# EAGLE library part W9021X (library winbond-w9021x)
W90210 Winbond W90210/W90215 HP PA-RISC embedded controller
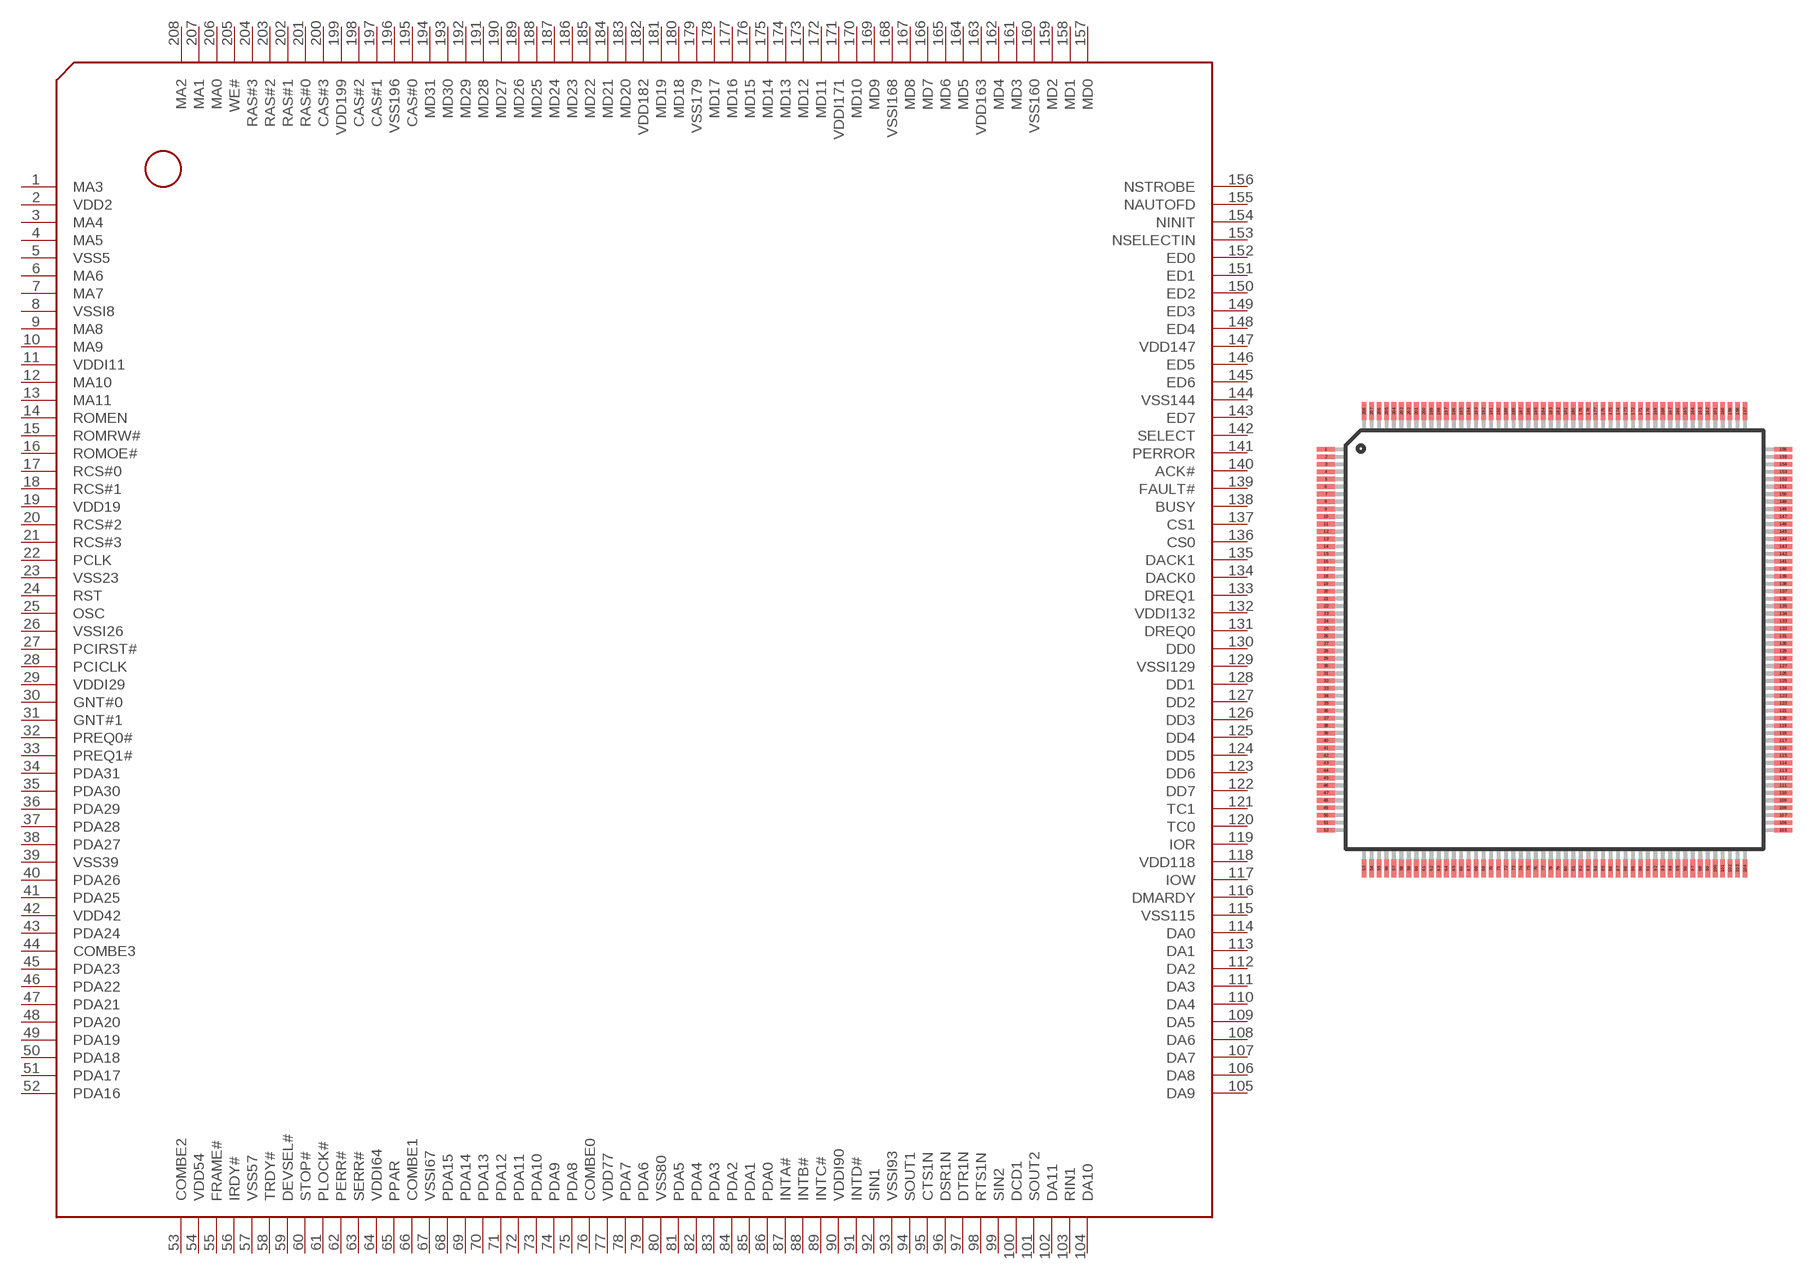
[diagram p0: symbol with the pads of PQFP208; footprint PQFP208]

Designator prefix IC

## W9021X  [PQFP208]
1  MA3  out
2  VDD2  pwr
3  MA4  out
4  MA5
5  VSS5  pwr
6  MA6  out
7  MA7  out
8  VSSI8  pwr
9  MA8  out
10  MA9  out
11  VDDI11  pwr
12  MA10  out
13  MA11  out
14  ROMEN  out
15  ROMRW#  out
16  ROMOE#  out
17  RCS#0  out
18  RCS#1  out
19  VDD19  pwr
20  RCS#2  out
21  RCS#3  out
22  PCLK  in
23  VSS23  pwr
24  RST  in
25  OSC  in
26  VSSI26  pwr
27  PCIRST#  out
28  PCICLK  out
29  VDDI29  pwr
30  GNT#0  out
31  GNT#1  out
32  PREQ0#  in
33  PREQ1#  in
34  PDA31
35  PDA30
36  PDA29
37  PDA28
38  PDA27
39  VSS39  pwr
40  PDA26
41  PDA25
42  VDD42  pwr
43  PDA24
44  COMBE3
45  PDA23
46  PDA22
47  PDA21
48  PDA20
49  PDA19
50  PDA18
51  PDA17
52  PDA16
53  COMBE2
54  VDD54  pwr
55  FRAME#
56  IRDY#
57  VSS57  pwr
58  TRDY#
59  DEVSEL#
60  STOP#
61  PLOCK#  in
62  PERR#
63  SERR#  in
64  VDDI64  pwr
65  PPAR  in
66  COMBE1
67  VSSI67  pwr
68  PDA15
69  PDA14
70  PDA13
71  PDA12
72  PDA11
73  PDA10
74  PDA9
75  PDA8
76  COMBE0
77  VDD77  pwr
78  PDA7
79  PDA6
80  VSS80  pwr
81  PDA5
82  PDA4
83  PDA3
84  PDA2
85  PDA1
86  PDA0
87  INTA#  in
88  INTB#  in
89  INTC#  in
90  VDDI90  pwr
91  INTD#  in
92  SIN1  in
93  VSSI93  pwr
94  SOUT1  out
95  CTS1N  in
96  DSR1N  out
97  DTR1N  in
98  RTS1N  out
99  SIN2  in
100  DCD1  in
101  SOUT2  out
102  DA11  out
103  RIN1  out
104  DA10  out
105  DA9  out
106  DA8  out
107  DA7  out
108  DA6  out
109  DA5  out
110  DA4  out
111  DA3  out
112  DA2  out
113  DA1  out
114  DA0  out
115  VSS115  pwr
116  DMARDY  in
117  IOW  out
118  VDD118  pwr
119  IOR  out
120  TC0  out
121  TC1  out
122  DD7
123  DD6
124  DD5
125  DD4
126  DD3
127  DD2
128  DD1
129  VSSI129  pwr
130  DD0
131  DREQ0  in
132  VDDI132  pwr
133  DREQ1  in
134  DACK0  out
135  DACK1  out
136  CS0  out
137  CS1  out
138  BUSY  in
139  FAULT#  in
140  ACK#  in
141  PERROR  in
142  SELECT  in
143  ED7
144  VSS144  pwr
145  ED6
146  ED5
147  VDD147  pwr
148  ED4
149  ED3
150  ED2
151  ED1
152  ED0
153  NSELECTIN  out
154  NINIT  out
155  NAUTOFD  out
156  NSTROBE  out
157  MD0
158  MD1
159  MD2
160  VSS160  pwr
161  MD3
162  MD4
163  VDD163  pwr
164  MD5
165  MD6
166  MD7
167  MD8
168  VSSI168  pwr
169  MD9
170  MD10
171  VDDI171  pwr
172  MD11
173  MD12
174  MD13
175  MD14
176  MD15
177  MD16
178  MD17
179  VSS179  pwr
180  MD18
181  MD19
182  VDD182  pwr
183  MD20
184  MD21
185  MD22
186  MD23
187  MD24
188  MD25
189  MD26
190  MD27
191  MD28
192  MD29
193  MD30
194  MD31
195  CAS#0  out
196  VSS196  pwr
197  CAS#1  out
198  CAS#2  out
199  VDD199  pwr
200  CAS#3  out
201  RAS#0  out
202  RAS#1  out
203  RAS#2  out
204  RAS#3  out
205  WE#  out
206  MA0  out
207  MA1  out
208  MA2  out

## Footprint PQFP208 (pad centres in mm)
PQFP208 208-Pin Plastic Quad Flat Pack
smd 1.2 x 0.32: 1 -15.3,12.75; 2 -15.3,12.25; 3 -15.3,11.75; 4 -15.3,11.25; 5 -15.3,10.75; 6 -15.3,10.25; 7 -15.3,9.75; 8 -15.3,9.25; 9 -15.3,8.75; 10 -15.3,8.25; 11 -15.3,7.75; 12 -15.3,7.25; 13 -15.3,6.75; 14 -15.3,6.25; 15 -15.3,5.75; 16 -15.3,5.25; 17 -15.3,4.75; 18 -15.3,4.25; 19 -15.3,3.75; 20 -15.3,3.25; 21 -15.3,2.75; 22 -15.3,2.25; 23 -15.3,1.75; 24 -15.3,1.25; 25 -15.3,0.75; 26 -15.3,0.25; 27 -15.3,-0.25; 28 -15.3,-0.75; 29 -15.3,-1.25; 30 -15.3,-1.75; 31 -15.3,-2.25; 32 -15.3,-2.75; 33 -15.3,-3.25; 34 -15.3,-3.75; 35 -15.3,-4.25; 36 -15.3,-4.75; 37 -15.3,-5.25; 38 -15.3,-5.75; 39 -15.3,-6.25; 40 -15.3,-6.75; 41 -15.3,-7.25; 42 -15.3,-7.75; 43 -15.3,-8.25; 44 -15.3,-8.75; 45 -15.3,-9.25; 46 -15.3,-9.75; 47 -15.3,-10.25; 48 -15.3,-10.75; 49 -15.3,-11.25; 50 -15.3,-11.75; 51 -15.3,-12.25; 52 -15.3,-12.75; 105 15.3,-12.75; 106 15.3,-12.25; 107 15.3,-11.75; 108 15.3,-11.25; 109 15.3,-10.75; 110 15.3,-10.25; 111 15.3,-9.75; 112 15.3,-9.25; 113 15.3,-8.75; 114 15.3,-8.25; 115 15.3,-7.75; 116 15.3,-7.25; 117 15.3,-6.75; 118 15.3,-6.25; 119 15.3,-5.75; 120 15.3,-5.25; 121 15.3,-4.75; 122 15.3,-4.25; 123 15.3,-3.75; 124 15.3,-3.25; 125 15.3,-2.75; 126 15.3,-2.25; 127 15.3,-1.75; 128 15.3,-1.25; 129 15.3,-0.75; 130 15.3,-0.25; 131 15.3,0.25; 132 15.3,0.75; 133 15.3,1.25; 134 15.3,1.75; 135 15.3,2.25; 136 15.3,2.75; 137 15.3,3.25; 138 15.3,3.75; 139 15.3,4.25; 140 15.3,4.75; 141 15.3,5.25; 142 15.3,5.75; 143 15.3,6.25; 144 15.3,6.75; 145 15.3,7.25; 146 15.3,7.75; 147 15.3,8.25; 148 15.3,8.75; 149 15.3,9.25; 150 15.3,9.75; 151 15.3,10.25; 152 15.3,10.75; 153 15.3,11.25; 154 15.3,11.75; 155 15.3,12.25; 156 15.3,12.75
smd 0.32 x 1.2: 53 -12.75,-15.3; 54 -12.25,-15.3; 55 -11.75,-15.3; 56 -11.25,-15.3; 57 -10.75,-15.3; 58 -10.25,-15.3; 59 -9.75,-15.3; 60 -9.25,-15.3; 61 -8.75,-15.3; 62 -8.25,-15.3; 63 -7.75,-15.3; 64 -7.25,-15.3; 65 -6.75,-15.3; 66 -6.25,-15.3; 67 -5.75,-15.3; 68 -5.25,-15.3; 69 -4.75,-15.3; 70 -4.25,-15.3; 71 -3.75,-15.3; 72 -3.25,-15.3; 73 -2.75,-15.3; 74 -2.25,-15.3; 75 -1.75,-15.3; 76 -1.25,-15.3; 77 -0.75,-15.3; 78 -0.25,-15.3; 79 0.25,-15.3; 80 0.75,-15.3; 81 1.25,-15.3; 82 1.75,-15.3; 83 2.25,-15.3; 84 2.75,-15.3; 85 3.25,-15.3; 86 3.75,-15.3; 87 4.25,-15.3; 88 4.75,-15.3; 89 5.25,-15.3; 90 5.75,-15.3; 91 6.25,-15.3; 92 6.75,-15.3; 93 7.25,-15.3; 94 7.75,-15.3; 95 8.25,-15.3; 96 8.75,-15.3; 97 9.25,-15.3; 98 9.75,-15.3; 99 10.25,-15.3; 100 10.75,-15.3; 101 11.25,-15.3; 102 11.75,-15.3; 103 12.25,-15.3; 104 12.75,-15.3; 157 12.75,15.3; 158 12.25,15.3; 159 11.75,15.3; 160 11.25,15.3; 161 10.75,15.3; 162 10.25,15.3; 163 9.75,15.3; 164 9.25,15.3; 165 8.75,15.3; 166 8.25,15.3; 167 7.75,15.3; 168 7.25,15.3; 169 6.75,15.3; 170 6.25,15.3; 171 5.75,15.3; 172 5.25,15.3; 173 4.75,15.3; 174 4.25,15.3; 175 3.75,15.3; 176 3.25,15.3; 177 2.75,15.3; 178 2.25,15.3; 179 1.75,15.3; 180 1.25,15.3; 181 0.75,15.3; 182 0.25,15.3; 183 -0.25,15.3; 184 -0.75,15.3; 185 -1.25,15.3; 186 -1.75,15.3; 187 -2.25,15.3; 188 -2.75,15.3; 189 -3.25,15.3; 190 -3.75,15.3; 191 -4.25,15.3; 192 -4.75,15.3; 193 -5.25,15.3; 194 -5.75,15.3; 195 -6.25,15.3; 196 -6.75,15.3; 197 -7.25,15.3; 198 -7.75,15.3; 199 -8.25,15.3; 200 -8.75,15.3; 201 -9.25,15.3; 202 -9.75,15.3; 203 -10.25,15.3; 204 -10.75,15.3; 205 -11.25,15.3; 206 -11.75,15.3; 207 -12.25,15.3; 208 -12.75,15.3